# Altium schematic symbol library BQ7692000PW.SchLib: 1 symbol
Pins are listed as number, name and electrical type; pins without a type are passive.

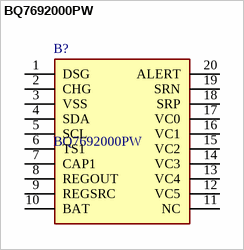
[diagram p0: symbol BQ7692000PW]

## BQ7692000PW
designator B?
3 to 5-Series Cell Li-Ion and Li-Phosphate Battery Monitor (bq76940 Family); Manufacturer_Name: Texas Instruments; Geometry.Height: 1.2mm; Mouser Part Number: 595-BQ7692000PW; Mouser Price/Stock: https://www.mouser.co.uk/ProductDetail/Texas-Instruments/BQ7692000PW?qs=p08Uhw9w2FzjYcjaCLld%2Fg%3D%3D; Manufacturer_Part_Number: BQ7692000PW; Datasheet Link: http://www.ti.com/lit/gpn/BQ76920
footprint SOP65P640X120-20N
pins: 1 DSG, 2 CHG, 3 VSS, 4 SDA, 5 SCL, 6 TS1, 7 CAP1, 8 REGOUT, 9 REGSRC, 10 BAT, 11 NC, 12 VC5, 13 VC4, 14 VC3, 15 VC2, 16 VC1, 17 VC0, 18 SRP, 19 SRN, 20 ALERT